# Altium schematic symbol library Schlib2.SchLib: 1 symbol
Pins are listed as number, name and electrical type; pins without a type are passive.

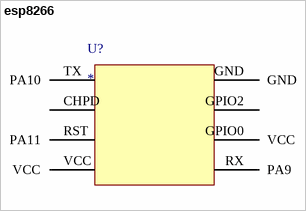
[diagram p0: symbol esp8266]

## esp8266
designator U?
pins: CHPD, GND, GPIO0 VCC, GPIO2, RST PA11, RX PA9, TX PA10, VCC